# EAGLE library part MCP4728 (library omcAD)
MCP4725 - 12-Bit Digital-to-Analog Converter with EEPROM Memory 12-Bit Resolution On-Board Non-Volatile Memory (EEPROM) ±0.2 LSB DNL (typical) Internal or External Voltage Reference Selection Fast Settling Time: 6 μs (typical) External Voltage Reference (VDD) Rail-to-Rail Output Low Power Consumption Single-Supply Operation: 2.7V to 5.5V I2C Interface: Address bits: User Programmable to EEPROM Standard (100 kbps), Fast (400 kbps) and High Speed (HS) Mode (3.4 Mbps) 10-Lead MSOP Package Extended Temperature Range: -40°C to +125°C Datasheet: Microchip <https://ww1.microchip.com/downloads/en/DeviceDoc/22187E.pdf>
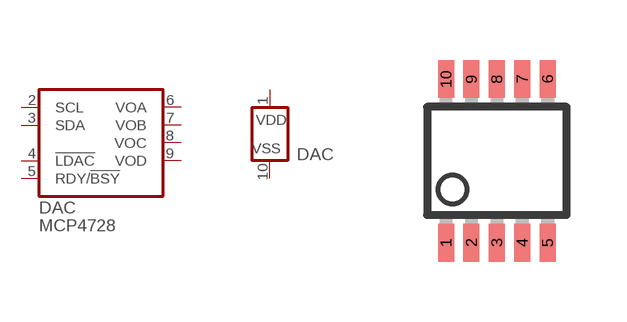
[diagram p2: symbol with the pads of MSOP10; footprint MSOP10]

Designator prefix DAC; gates G$1=DAC_I2C_OUT4_A1 G$2=PBOX_SUP1

## MCP4728 (#VENDOR: Michrochip,MCP4728A0; VALUE: MCP4728)  [MSOP10]
1  G$2:VDD  pwr
2  G$1:SCL  oc
3  G$1:SDA  oc
4  G$1:!LDAC  in
5  G$1:RDY/!BSY  oc
6  G$1:VOA
7  G$1:VOB
8  G$1:VOC
9  G$1:VOD
10  G$2:VSS  sup

## Footprint MSOP10 (pad centres in mm)
MSOP10 SMD 3mm×4.9mm Mechanical Reference <http://www.vishay.com/docs/71244/71244.pdf>
smd 0.4 x 0.95: 1 0.635,0.575; 2 1.27,0.575; 3 1.905,0.575; 4 2.54,0.575; 5 3.175,0.575; 6 3.175,4.664; 7 2.54,4.664; 8 1.905,4.664; 9 1.27,4.664; 10 0.635,4.664